# EAGLE library part CON_MOLEX_MINIFIT_2*4 (library my_con)
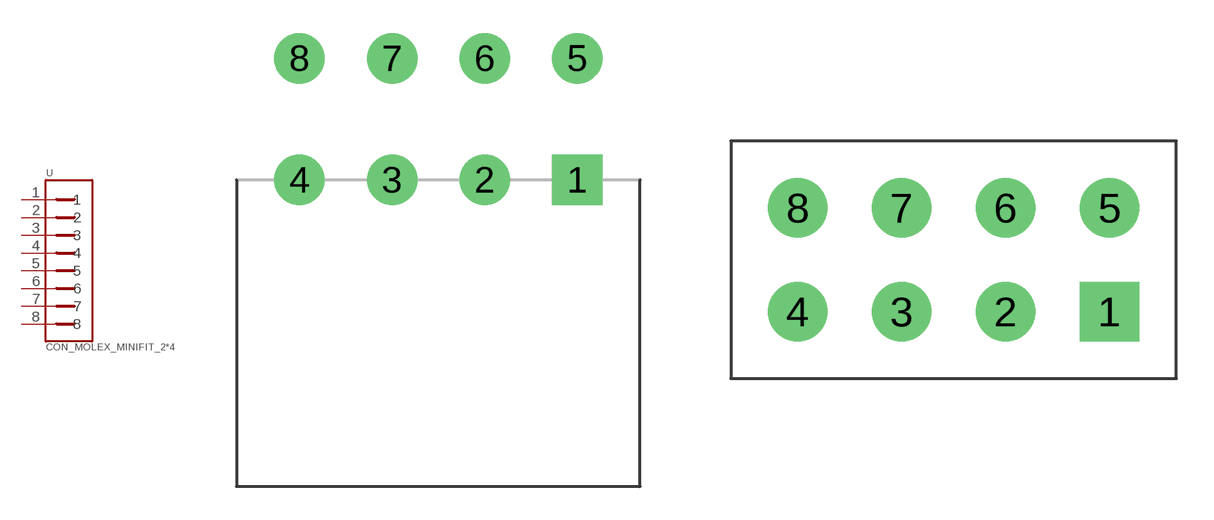
[diagram p2: symbol with the pads of CON_MOLEX_MINIFIT_2*4; footprints CON_MOLEX_MINIFIT_2*4, CON_MOLEX_MINIFIT_2*4_UR]

Designator prefix -

## CON_MOLEX_MINIFIT_24-  [CON_MOLEX_MINIFIT_2*4]
1  1  pas
2  2  pas
3  3  pas
4  4  pas
5  5  pas
6  6  pas
7  7  pas
8  8  pas

## CON_MOLEX_MINIFIT_24L  [CON_MOLEX_MINIFIT_2*4_UR]
Pads as for CON_MOLEX_MINIFIT_2*4

## Footprint CON_MOLEX_MINIFIT_2*4 (pad centres in mm)
drill 1.524 square: 1 6.287,0
drill 1.524: 2 2.095,0; 3 -2.095,0; 4 -6.287,0; 5 6.287,5.512; 6 2.095,5.512; 7 -2.095,5.512; 8 -6.287,5.512

## Footprint CON_MOLEX_MINIFIT_2*4_UR (pad centres in mm)
drill 1.5 pad 2.4 square: 1 6.3,-2.1
drill 1.5 pad 2.4: 2 2.1,-2.1; 3 -2.1,-2.1; 4 -6.3,-2.1; 5 6.3,2.1; 6 2.1,2.1; 7 -2.1,2.1; 8 -6.3,2.1